# EAGLE library part LM2776 (library DAQ_24bit_Hardware)
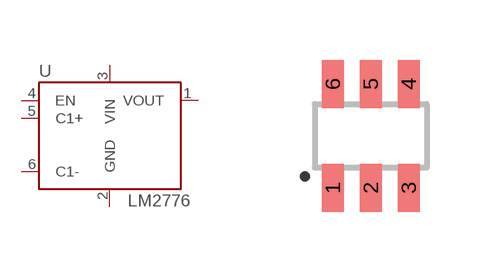
[diagram p1: symbol with the pads of SOT23-6; footprint SOT23-6]

Designator prefix U

## LM2776  [SOT23-6]
1  VOUT
2  GND
3  VIN
4  EN
5  C1+
6  C1-

## Footprint SOT23-6 (pad centres in mm)
smd 0.55 x 1.2: 1 -0.95,-1.3; 2 0,-1.3; 3 0.95,-1.3; 4 0.95,1.3; 5 0,1.3; 6 -0.95,1.3